# Altium schematic symbol library Regulator_Linear.SchLib: 1620 symbols (part 6 of 16)
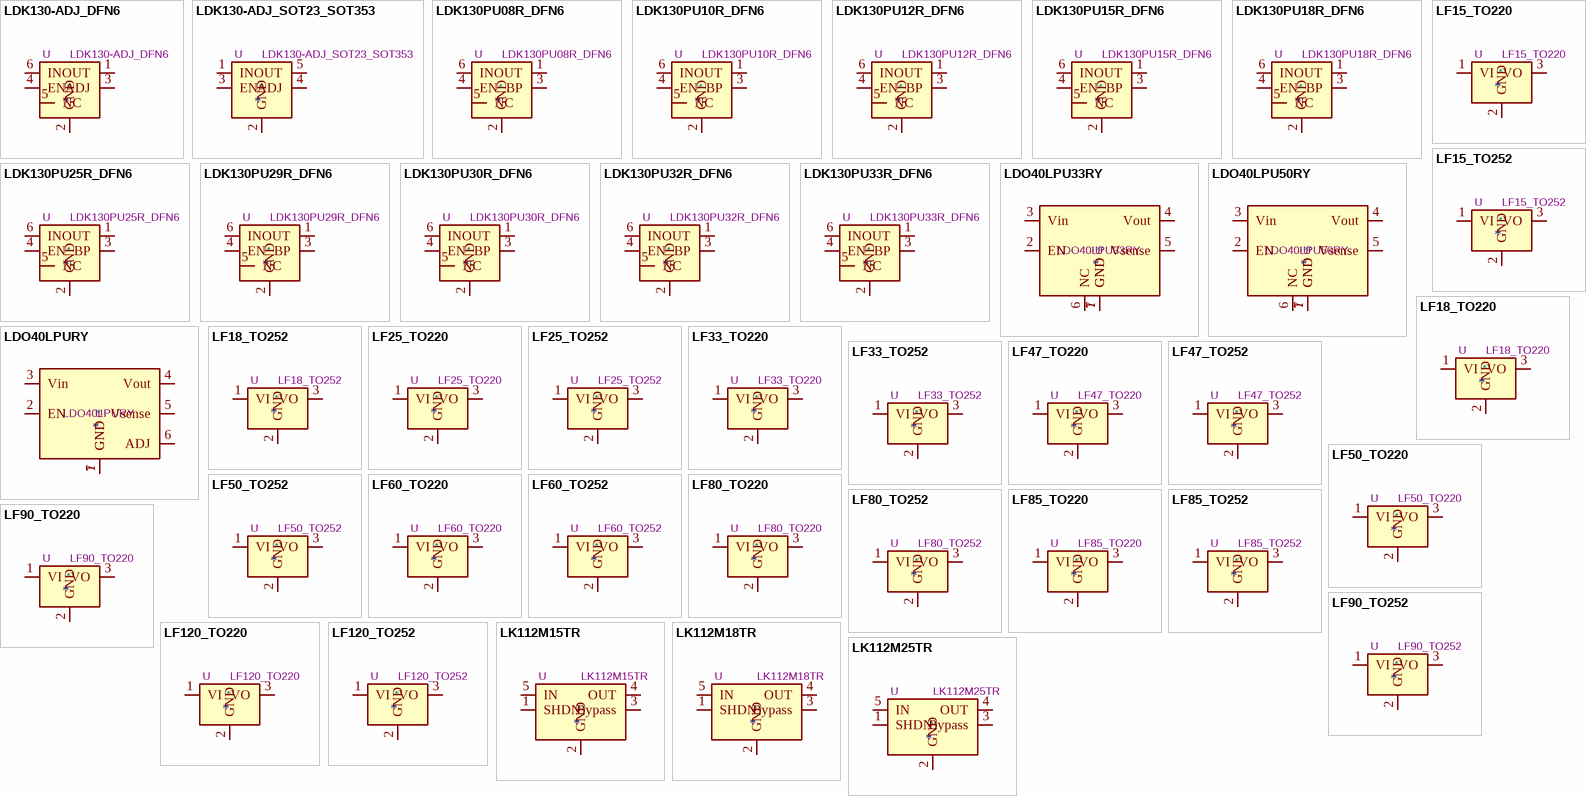
[diagram p45: symbols LDK130-ADJ_DFN6 to LK112M25TR]

## LF80_TO252
designator *  value LF80_TO252  Reference: U
Low-drop Voltage Regulator, Io up to 500mA, Fixed Vo 8.0V, TO-252 (DPAK); ki_keywords: LDO regulator voltage; ki_fp_filters: TO?252*; Footprint: Package_TO_SOT_SMD:TO-252-2; Datasheet: http://www.st.com/content/ccc/resource/technical/document/datasheet/c4/0e/7e/2a/be/bc/4c/bd/CD00000546.pdf/files/CD00000546.pdf/jcr:content/translations/en.CD00000546.pdf; Description_: Low-drop Voltage Regulator, Io up to 500mA, Fixed Vo 8.0V, TO-252 (DPAK)
pins: 1 VI, 2 GND, 3 VO

## LF85_TO220
designator *  value LF85_TO220  Reference: U
Low-drop Voltage Regulator, Io up to 500mA, Fixed Vo 8.5V, TO-220; ki_keywords: LDO regulator voltage; ki_fp_filters: TO?220*; Footprint: Package_TO_SOT_THT:TO-220-3_Vertical; Datasheet: http://www.st.com/content/ccc/resource/technical/document/datasheet/c4/0e/7e/2a/be/bc/4c/bd/CD00000546.pdf/files/CD00000546.pdf/jcr:content/translations/en.CD00000546.pdf; Description_: Low-drop Voltage Regulator, Io up to 500mA, Fixed Vo 8.5V, TO-220
pins: 1 VI, 2 GND, 3 VO

## LF85_TO252
designator *  value LF85_TO252  Reference: U
Low-drop Voltage Regulator, Io up to 500mA, Fixed Vo 8.5V, TO-252 (DPAK); ki_keywords: LDO regulator voltage; ki_fp_filters: TO?252*; Footprint: Package_TO_SOT_SMD:TO-252-2; Datasheet: http://www.st.com/content/ccc/resource/technical/document/datasheet/c4/0e/7e/2a/be/bc/4c/bd/CD00000546.pdf/files/CD00000546.pdf/jcr:content/translations/en.CD00000546.pdf; Description_: Low-drop Voltage Regulator, Io up to 500mA, Fixed Vo 8.5V, TO-252 (DPAK)
pins: 1 VI, 2 GND, 3 VO

## LF90_TO220
designator *  value LF90_TO220  Reference: U
Low-drop Voltage Regulator, Io up to 500mA, Fixed Vo 9.0V, TO-220; ki_keywords: LDO regulator voltage; ki_fp_filters: TO?220*; Footprint: Package_TO_SOT_THT:TO-220-3_Vertical; Datasheet: http://www.st.com/content/ccc/resource/technical/document/datasheet/c4/0e/7e/2a/be/bc/4c/bd/CD00000546.pdf/files/CD00000546.pdf/jcr:content/translations/en.CD00000546.pdf; Description_: Low-drop Voltage Regulator, Io up to 500mA, Fixed Vo 9.0V, TO-220
pins: 1 VI, 2 GND, 3 VO

## LF90_TO252
designator *  value LF90_TO252  Reference: U
Low-drop Voltage Regulator, Io up to 500mA, Fixed Vo 9.0V, TO-252 (DPAK); ki_keywords: LDO regulator voltage; ki_fp_filters: TO?252*; Footprint: Package_TO_SOT_SMD:TO-252-2; Datasheet: http://www.st.com/content/ccc/resource/technical/document/datasheet/c4/0e/7e/2a/be/bc/4c/bd/CD00000546.pdf/files/CD00000546.pdf/jcr:content/translations/en.CD00000546.pdf; Description_: Low-drop Voltage Regulator, Io up to 500mA, Fixed Vo 9.0V, TO-252 (DPAK)
pins: 1 VI, 2 GND, 3 VO

## LF120_TO220
designator *  value LF120_TO220  Reference: U
Low-drop Voltage Regulator, Io up to 500mA, Fixed Vo 12.0V, TO-220; ki_keywords: LDO regulator voltage; ki_fp_filters: TO?220*; Footprint: Package_TO_SOT_THT:TO-220-3_Vertical; Datasheet: http://www.st.com/content/ccc/resource/technical/document/datasheet/c4/0e/7e/2a/be/bc/4c/bd/CD00000546.pdf/files/CD00000546.pdf/jcr:content/translations/en.CD00000546.pdf; Description_: Low-drop Voltage Regulator, Io up to 500mA, Fixed Vo 12.0V, TO-220
pins: 1 VI, 2 GND, 3 VO

## LF120_TO252
designator *  value LF120_TO252  Reference: U
Low-drop Voltage Regulator, Io up to 500mA, Fixed Vo 12.0V, TO-252 (DPAK); ki_keywords: LDO regulator voltage; ki_fp_filters: TO?252*; Footprint: Package_TO_SOT_SMD:TO-252-2; Datasheet: http://www.st.com/content/ccc/resource/technical/document/datasheet/c4/0e/7e/2a/be/bc/4c/bd/CD00000546.pdf/files/CD00000546.pdf/jcr:content/translations/en.CD00000546.pdf; Description_: Low-drop Voltage Regulator, Io up to 500mA, Fixed Vo 12.0V, TO-252 (DPAK)
pins: 1 VI, 2 GND, 3 VO

## LK112M15TR
designator *  value LK112M15TR  Reference: U
Low noise and low drop voltage regulator with shutdown function, 150mA, Vout = 1.5V, SOT-23-5; ki_keywords: LDO regulator voltage; ki_fp_filters: SOT?23*; Footprint: Package_TO_SOT_SMD:SOT-23-5; Datasheet: https://www.st.com/resource/ja/datasheet/lk112.pdf; Description_: Low noise and low drop voltage regulator with shutdown function, 150mA, Vout = 1.5V, SOT-23-5
pins: 1 SHDN, 2 GND, 3 Bypass, 4 OUT, 5 IN

## LK112M18TR
designator *  value LK112M18TR  Reference: U
Low noise and low drop voltage regulator with shutdown function, 150mA, Vout = 1.8V, SOT-23-5; ki_keywords: LDO regulator voltage; ki_fp_filters: SOT?23*; Footprint: Package_TO_SOT_SMD:SOT-23-5; Datasheet: https://www.st.com/resource/ja/datasheet/lk112.pdf; Description_: Low noise and low drop voltage regulator with shutdown function, 150mA, Vout = 1.8V, SOT-23-5
pins: 1 SHDN, 2 GND, 3 Bypass, 4 OUT, 5 IN

## LK112M25TR
designator *  value LK112M25TR  Reference: U
Low noise and low drop voltage regulator with shutdown function, 150mA, Vout = 2.5V, SOT-23-5; ki_keywords: LDO regulator voltage; ki_fp_filters: SOT?23*; Footprint: Package_TO_SOT_SMD:SOT-23-5; Datasheet: https://www.st.com/resource/ja/datasheet/lk112.pdf; Description_: Low noise and low drop voltage regulator with shutdown function, 150mA, Vout = 2.5V, SOT-23-5
pins: 1 SHDN, 2 GND, 3 Bypass, 4 OUT, 5 IN

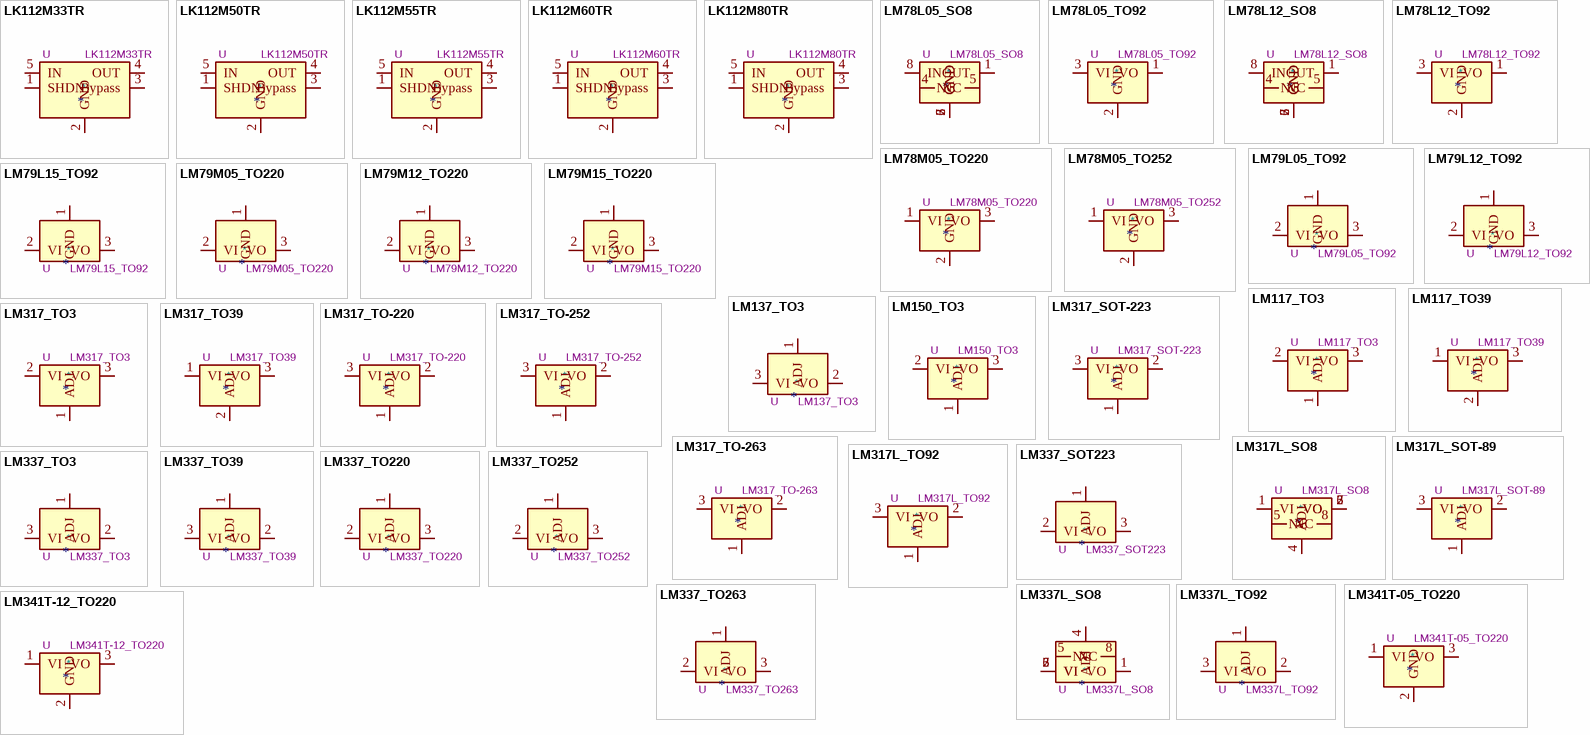
[diagram p13: symbols LK112M33TR to LM341T-12_TO220]

## LK112M33TR
designator *  value LK112M33TR  Reference: U
Low noise and low drop voltage regulator with shutdown function, 150mA, Vout = 3.3V, SOT-23-5; ki_keywords: LDO regulator voltage; ki_fp_filters: SOT?23*; Footprint: Package_TO_SOT_SMD:SOT-23-5; Datasheet: https://www.st.com/resource/ja/datasheet/lk112.pdf; Description_: Low noise and low drop voltage regulator with shutdown function, 150mA, Vout = 3.3V, SOT-23-5
pins: 1 SHDN, 2 GND, 3 Bypass, 4 OUT, 5 IN

## LK112M50TR
designator *  value LK112M50TR  Reference: U
Low noise and low drop voltage regulator with shutdown function, 150mA, Vout = 5.0V, SOT-23-5; ki_keywords: LDO regulator voltage; ki_fp_filters: SOT?23*; Footprint: Package_TO_SOT_SMD:SOT-23-5; Datasheet: https://www.st.com/resource/ja/datasheet/lk112.pdf; Description_: Low noise and low drop voltage regulator with shutdown function, 150mA, Vout = 5.0V, SOT-23-5
pins: 1 SHDN, 2 GND, 3 Bypass, 4 OUT, 5 IN

## LK112M55TR
designator *  value LK112M55TR  Reference: U
Low noise and low drop voltage regulator with shutdown function, 150mA, Vout = 5.5V, SOT-23-5; ki_keywords: LDO regulator voltage; ki_fp_filters: SOT?23*; Footprint: Package_TO_SOT_SMD:SOT-23-5; Datasheet: https://www.st.com/resource/ja/datasheet/lk112.pdf; Description_: Low noise and low drop voltage regulator with shutdown function, 150mA, Vout = 5.5V, SOT-23-5
pins: 1 SHDN, 2 GND, 3 Bypass, 4 OUT, 5 IN

## LK112M60TR
designator *  value LK112M60TR  Reference: U
Low noise and low drop voltage regulator with shutdown function, 150mA, Vout = 6.0V, SOT-23-5; ki_keywords: LDO regulator voltage; ki_fp_filters: SOT?23*; Footprint: Package_TO_SOT_SMD:SOT-23-5; Datasheet: https://www.st.com/resource/ja/datasheet/lk112.pdf; Description_: Low noise and low drop voltage regulator with shutdown function, 150mA, Vout = 6.0V, SOT-23-5
pins: 1 SHDN, 2 GND, 3 Bypass, 4 OUT, 5 IN

## LK112M80TR
designator *  value LK112M80TR  Reference: U
Low noise and low drop voltage regulator with shutdown function, 150mA, Vout = 8.0V, SOT-23-5; ki_keywords: LDO regulator voltage; ki_fp_filters: SOT?23*; Footprint: Package_TO_SOT_SMD:SOT-23-5; Datasheet: https://www.st.com/resource/ja/datasheet/lk112.pdf; Description_: Low noise and low drop voltage regulator with shutdown function, 150mA, Vout = 8.0V, SOT-23-5
pins: 1 SHDN, 2 GND, 3 Bypass, 4 OUT, 5 IN

## LM78L05_SO8
designator *  value LM78L05_SO8  Reference: U
Positive 100mA 30V Linear Regulator, Fixed Output 5V, SO-8; ki_keywords: Voltage Regulator 100mA Positive; ki_fp_filters: SOIC*3.9x4.9mm*P1.27mm*; Footprint: Package_SO:SOIC-8_3.9x4.9mm_P1.27mm; Datasheet: https://www.onsemi.com/pub/Collateral/MC78L06A-D.pdf; Description_: Positive 100mA 30V Linear Regulator, Fixed Output 5V, SO-8
pins: 1 OUT, 2 GND, 3 GND, 4 NC, 5 NC, 6 GND, 7 GND, 8 IN

## LM78L05_TO92
designator *  value LM78L05_TO92  Reference: U
Positive 100mA 30V Linear Regulator, Fixed Output 5V, TO-92; ki_keywords: Voltage Regulator 100mA Positive; ki_fp_filters: TO?92*; Footprint: Package_TO_SOT_THT:TO-92_Inline; Datasheet: https://www.onsemi.com/pub/Collateral/MC78L06A-D.pdf; Description_: Positive 100mA 30V Linear Regulator, Fixed Output 5V, TO-92
pins: 1 VO, 2 GND, 3 VI

## LM78L12_SO8
designator *  value LM78L12_SO8  Reference: U
Positive 100mA 30V Linear Regulator, Fixed Output 12V, SO-8; ki_keywords: Voltage Regulator 100mA Positive; ki_fp_filters: SOIC*3.9x4.9mm*P1.27mm*; Footprint: Package_SO:SOIC-8_3.9x4.9mm_P1.27mm; Datasheet: https://www.onsemi.com/pub/Collateral/MC78L06A-D.pdf; Description_: Positive 100mA 30V Linear Regulator, Fixed Output 12V, SO-8
pins: 1 OUT, 2 GND, 3 GND, 4 NC, 5 NC, 6 GND, 7 GND, 8 IN

## LM78L12_TO92
designator *  value LM78L12_TO92  Reference: U
Positive 100mA 30V Linear Regulator, Fixed Output 12V, TO-92; ki_keywords: Voltage Regulator 100mA Positive; ki_fp_filters: TO?92*; Footprint: Package_TO_SOT_THT:TO-92_Inline; Datasheet: https://www.onsemi.com/pub/Collateral/MC78L06A-D.pdf; Description_: Positive 100mA 30V Linear Regulator, Fixed Output 12V, TO-92
pins: 1 VO, 2 GND, 3 VI

## LM78M05_TO220
designator *  value LM78M05_TO220  Reference: U
Positive 500mA 35V Linear Regulator, Fixed Output 5V, TO-220; ki_keywords: Voltage Regulator 500mA Positive; ki_fp_filters: TO?220*; Footprint: Package_TO_SOT_THT:TO-220-3_Vertical; Datasheet: https://www.onsemi.com/pub/Collateral/MC78M00-D.PDF; Description_: Positive 500mA 35V Linear Regulator, Fixed Output 5V, TO-220
pins: 1 VI, 2 GND, 3 VO

## LM78M05_TO252
designator *  value LM78M05_TO252  Reference: U
Positive 500mA 35V Linear Regulator, Fixed Output 5V, TO-252 (D-PAK); ki_keywords: Voltage Regulator 500mA Positive; ki_fp_filters: TO?252*; Footprint: Package_TO_SOT_SMD:TO-252-2; Datasheet: https://www.onsemi.com/pub/Collateral/MC78M00-D.PDF; Description_: Positive 500mA 35V Linear Regulator, Fixed Output 5V, TO-252 (D-PAK)
pins: 1 VI, 2 GND, 3 VO

## LM79L05_TO92
designator *  value LM79L05_TO92  Reference: U
3-Terminal Negative Regulator, -5V, TO-92; ki_keywords: negative regulatpr; ki_fp_filters: TO?92*; Footprint: Package_TO_SOT_THT:TO-92_Inline; Datasheet: http://www.ti.com/lit/ds/symlink/lm79l.pdf; Description_: 3-Terminal Negative Regulator, -5V, TO-92
pins: 1 GND, 2 VI, 3 VO

## LM79L12_TO92
designator *  value LM79L12_TO92  Reference: U
3-Terminal Negative Regulator, -12V, TO-92; ki_keywords: negative regulatpr; ki_fp_filters: TO?92*; Footprint: Package_TO_SOT_THT:TO-92_Inline; Datasheet: http://www.ti.com/lit/ds/symlink/lm79l.pdf; Description_: 3-Terminal Negative Regulator, -12V, TO-92
pins: 1 GND, 2 VI, 3 VO

## LM79L15_TO92
designator *  value LM79L15_TO92  Reference: U
3-Terminal Negative Regulator, -15V, TO-92; ki_keywords: negative regulatpr; ki_fp_filters: TO?92*; Footprint: Package_TO_SOT_THT:TO-92_Inline; Datasheet: http://www.ti.com/lit/ds/symlink/lm79l.pdf; Description_: 3-Terminal Negative Regulator, -15V, TO-92
pins: 1 GND, 2 VI, 3 VO

## LM79M05_TO220
designator *  value LM79M05_TO220  Reference: U
Negative 500mA 35V Linear Regulator, Fixed Output 5V, TO-220; ki_keywords: Voltage Regulator 500mA Negative; ki_fp_filters: TO?220*; Footprint: Package_TO_SOT_THT:TO-220-3_Vertical; Datasheet: https://www.onsemi.com/pub/Collateral/MC79M00-D.PDF; Description_: Negative 500mA 35V Linear Regulator, Fixed Output 5V, TO-220
pins: 1 GND, 2 VI, 3 VO

## LM79M12_TO220
designator *  value LM79M12_TO220  Reference: U
Negative 500mA 35V Linear Regulator, Fixed Output 12V, TO-220; ki_keywords: Voltage Regulator 500mA Negative; ki_fp_filters: TO?220*; Footprint: Package_TO_SOT_THT:TO-220-3_Vertical; Datasheet: https://www.onsemi.com/pub/Collateral/MC79M00-D.PDF; Description_: Negative 500mA 35V Linear Regulator, Fixed Output 12V, TO-220
pins: 1 GND, 2 VI, 3 VO

## LM79M15_TO220
designator *  value LM79M15_TO220  Reference: U
Negative 500mA 35V Linear Regulator, Fixed Output 15V, TO-220; ki_keywords: Voltage Regulator 500mA Negative; ki_fp_filters: TO?220*; Footprint: Package_TO_SOT_THT:TO-220-3_Vertical; Datasheet: https://www.onsemi.com/pub/Collateral/MC79M00-D.PDF; Description_: Negative 500mA 35V Linear Regulator, Fixed Output 15V, TO-220
pins: 1 GND, 2 VI, 3 VO

## LM117_TO3
designator *  value LM117_TO3  Reference: U
1,5A 35V Adjustable Linear Regulator, TO-3; ki_keywords: Adjustable Voltage Regulator 1,5A Positive; ki_fp_filters: TO?3*; Footprint: Package_TO_SOT_THT:TO-3; Datasheet: http://www.ti.com/lit/ds/symlink/lm317.pdf; Description_: 1,5A 35V Adjustable Linear Regulator, TO-3
pins: 1 ADJ, 2 VI, 3 VO

## LM117_TO39
designator *  value LM117_TO39  Reference: U
500mA 35V Adjustable Linear Regulator, TO-39; ki_keywords: Adjustable Voltage Regulator 500mA Positive; ki_fp_filters: TO?39*; Footprint: Package_TO_SOT_THT:TO-39-3; Datasheet: http://www.ti.com/lit/ds/symlink/lm317.pdf; Description_: 500mA 35V Adjustable Linear Regulator, TO-39
pins: 1 VI, 2 ADJ, 3 VO

## LM137_TO3
designator *  value LM137_TO3  Reference: U
Negative 1.5A 35V Adjustable Linear Regulator, TO-3; ki_keywords: Adjustable Voltage Regulator 1.5A Negative; ki_fp_filters: TO?3*; Footprint: Package_TO_SOT_THT:TO-3; Datasheet: http://www.ti.com/lit/ds/symlink/lm337-n.pdf; Description_: Negative 1.5A 35V Adjustable Linear Regulator, TO-3
pins: 1 ADJ, 2 VO, 3 VI

## LM150_TO3
designator *  value LM150_TO3  Reference: U
3A 33V Adjustable Linear Regulator, TO-3; ki_keywords: Adjustable Voltage Regulator 3A Positive; ki_fp_filters: TO?3*; Footprint: Package_TO_SOT_THT:TO-3; Datasheet: http://www.ti.com/lit/ds/symlink/lm350a.pdf; Description_: 3A 33V Adjustable Linear Regulator, TO-3
pins: 1 ADJ, 2 VI, 3 VO

## LM317_SOT-223
designator *  value LM317_SOT-223  Reference: U
1.5A 35V Adjustable Linear Regulator, SOT-223; ki_keywords: Adjustable Voltage Regulator 1A Positive; ki_fp_filters: SOT?223*TabPin2*; Footprint: Package_TO_SOT_SMD:SOT-223-3_TabPin2; Datasheet: http://www.ti.com/lit/ds/symlink/lm317.pdf; Description_: 1.5A 35V Adjustable Linear Regulator, SOT-223
pins: 1 ADJ, 2 VO, 3 VI

## LM317_TO3
designator *  value LM317_TO3  Reference: U
1.5A 35V Adjustable Linear Regulator, TO-3; ki_keywords: Adjustable Voltage Regulator 1.5A Positive; ki_fp_filters: TO?3*; Footprint: Package_TO_SOT_THT:TO-3; Datasheet: http://www.ti.com/lit/ds/symlink/lm317.pdf; Description_: 1.5A 35V Adjustable Linear Regulator, TO-3
pins: 1 ADJ, 2 VI, 3 VO

## LM317_TO39
designator *  value LM317_TO39  Reference: U
500mA 35V Adjustable Linear Regulator, TO-39; ki_keywords: Adjustable Voltage Regulator 500mA Positive; ki_fp_filters: TO?39*; Footprint: Package_TO_SOT_THT:TO-39-3; Datasheet: http://www.ti.com/lit/ds/symlink/lm317.pdf; Description_: 500mA 35V Adjustable Linear Regulator, TO-39
pins: 1 VI, 2 ADJ, 3 VO

## LM317_TO-220
designator *  value LM317_TO-220  Reference: U
1.5A 35V Adjustable Linear Regulator, TO-220; ki_keywords: Adjustable Voltage Regulator 1A Positive; ki_fp_filters: TO?220*; Footprint: Package_TO_SOT_THT:TO-220-3_Vertical; Datasheet: http://www.ti.com/lit/ds/symlink/lm317.pdf; Description_: 1.5A 35V Adjustable Linear Regulator, TO-220
pins: 1 ADJ, 2 VO, 3 VI

## LM317_TO-252
designator *  value LM317_TO-252  Reference: U
1.5A 35V Adjustable Linear Regulator, TO-252; ki_keywords: Adjustable Voltage Regulator 1A Positive; ki_fp_filters: TO?252*; Footprint: Package_TO_SOT_SMD:TO-252-2; Datasheet: http://www.ti.com/lit/ds/snvs774n/snvs774n.pdf; Description_: 1.5A 35V Adjustable Linear Regulator, TO-252
pins: 1 ADJ, 2 VO, 3 VI

## LM317_TO-263
designator *  value LM317_TO-263  Reference: U
1.5A 35V Adjustable Linear Regulator, TO-263; ki_keywords: Adjustable Voltage Regulator 1A Positive; ki_fp_filters: TO?263*; Footprint: Package_TO_SOT_SMD:TO-263-2; Datasheet: http://www.ti.com/lit/ds/symlink/lm317.pdf; Description_: 1.5A 35V Adjustable Linear Regulator, TO-263
pins: 1 ADJ, 2 VO, 3 VI

## LM317L_SO8
designator *  value LM317L_SO8  Reference: U
100mA 35V Adjustable Linear Regulator, SO-8; ki_keywords: Adjustable Voltage Regulator 100mA Positive; ki_fp_filters: SOIC*3.9x4.9mm*P1.27mm*; Footprint: Package_SO:SOIC-8_3.9x4.9mm_P1.27mm; Datasheet: http://www.ti.com/lit/ds/snvs775k/snvs775k.pdf; Description_: 100mA 35V Adjustable Linear Regulator, SO-8
pins: 1 VI, 2 VO, 3 VO, 4 ADJ, 5 NC, 6 VO, 7 VO, 8 NC

## LM317L_SOT-89
designator *  value LM317L_SOT-89  Reference: U
100mA 35V Adjustable Linear Regulator, SOT-89; ki_keywords: Adjustable Voltage Regulator 1A Positive; ki_fp_filters: SOT?89*; Footprint: Package_TO_SOT_SMD:SOT-89-3; Datasheet: http://www.ti.com/lit/ds/symlink/lm317l.pdf; Description_: 100mA 35V Adjustable Linear Regulator, SOT-89
pins: 1 ADJ, 2 VO, 3 VI

## LM317L_TO92
designator *  value LM317L_TO92  Reference: U
100mA 35V Adjustable Linear Regulator, TO-92; ki_keywords: Adjustable Voltage Regulator 100mA Positive; ki_fp_filters: TO?92*; Footprint: Package_TO_SOT_THT:TO-92_Inline; Datasheet: http://www.ti.com/lit/ds/snvs775k/snvs775k.pdf; Description_: 100mA 35V Adjustable Linear Regulator, TO-92
pins: 1 ADJ, 2 VO, 3 VI

## LM337_SOT223
designator *  value LM337_SOT223  Reference: U
Negative 1A 35V Adjustable Linear Regulator, SOT-223; ki_keywords: Adjustable Voltage Regulator 1A Negative; ki_fp_filters: SOT?223*; Footprint: Package_TO_SOT_SMD:SOT-223-3_TabPin2; Datasheet: http://www.ti.com/lit/ds/symlink/lm337-n.pdf; Description_: Negative 1A 35V Adjustable Linear Regulator, SOT-223
pins: 1 ADJ, 2 VI, 3 VO

## LM337_TO3
designator *  value LM337_TO3  Reference: U
Negative 1.5A 35V Adjustable Linear Regulator, TO-3; ki_keywords: Adjustable Voltage Regulator 1.5A Negative; ki_fp_filters: TO?3*; Footprint: Package_TO_SOT_THT:TO-3; Datasheet: http://www.ti.com/lit/ds/symlink/lm337-n.pdf; Description_: Negative 1.5A 35V Adjustable Linear Regulator, TO-3
pins: 1 ADJ, 2 VO, 3 VI

## LM337_TO39
designator *  value LM337_TO39  Reference: U
Negative 500mA 35V Adjustable Linear Regulator, TO-39; ki_keywords: Adjustable Voltage Regulator 500mA Negative; ki_fp_filters: TO?39*; Footprint: Package_TO_SOT_THT:TO-39-3; Datasheet: http://www.ti.com/lit/ds/symlink/lm337-n.pdf; Description_: Negative 500mA 35V Adjustable Linear Regulator, TO-39
pins: 1 ADJ, 2 VO, 3 VI

## LM337_TO220
designator *  value LM337_TO220  Reference: U
Negative 1.5A 35V Adjustable Linear Regulator, TO-220; ki_keywords: Adjustable Voltage Regulator 1.5A Negative; ki_fp_filters: TO?220*; Footprint: Package_TO_SOT_THT:TO-220-3_Vertical; Datasheet: http://www.ti.com/lit/ds/symlink/lm337-n.pdf; Description_: Negative 1.5A 35V Adjustable Linear Regulator, TO-220
pins: 1 ADJ, 2 VI, 3 VO

## LM337_TO252
designator *  value LM337_TO252  Reference: U
Negative 1A 35V Adjustable Linear Regulator, TO-252(DPAK); ki_keywords: Adjustable Voltage Regulator 1A Negative; ki_fp_filters: TO?252*; Footprint: Package_TO_SOT_SMD:TO-252-2; Datasheet: http://www.farnell.com/datasheets/1636957.pdf; Description_: Negative 1A 35V Adjustable Linear Regulator, TO-252(DPAK)
pins: 1 ADJ, 2 VI, 3 VO

## LM337_TO263
designator *  value LM337_TO263  Reference: U
Negative 1A 35V Adjustable Linear Regulator, TO-263(D2-PAK); ki_keywords: Adjustable Voltage Regulator 1A Negative; ki_fp_filters: TO?263*; Footprint: Package_TO_SOT_SMD:TO-263-2; Datasheet: https://www.onsemi.com/pub/Collateral/LM337-D.PDF; Description_: Negative 1A 35V Adjustable Linear Regulator, TO-263(D2-PAK)
pins: 1 ADJ, 2 VI, 3 VO

## LM337L_SO8
designator *  value LM337L_SO8  Reference: U
100mA 35V Adjustable Negative Linear Regulator, SO-8; ki_keywords: Adjustable Negative Voltage Regulator 100mA; ki_fp_filters: SOIC*3.9x4.9mm*P1.27mm*; Footprint: Package_SO:SOIC-8_3.9x4.9mm_P1.27mm; Datasheet: http://www.ti.com/lit/ds/symlink/lm337l.pdf; Description_: 100mA 35V Adjustable Negative Linear Regulator, SO-8
pins: 1 VO, 2 VI, 3 VI, 4 ADJ, 5 NC, 6 VI, 7 VI, 8 NC

## LM337L_TO92
designator *  value LM337L_TO92  Reference: U
Negative 100mA 35V Adjustable Linear Regulator, TO-92; ki_keywords: Adjustable Voltage Regulator 100mA Negative; ki_fp_filters: TO?92*; Footprint: Package_TO_SOT_THT:TO-92_Inline; Datasheet: http://www.ti.com/lit/ds/symlink/lm337l.pdf; Description_: Negative 100mA 35V Adjustable Linear Regulator, TO-92
pins: 1 ADJ, 2 VO, 3 VI

## LM341T-05_TO220
designator *  value LM341T-05_TO220  Reference: U
Positive 500mA 35V Linear Regulator, Fixed Output 5V, TO-220; ki_keywords: Voltage Regulator 500mA Positive; ki_fp_filters: TO?220*; Footprint: Package_TO_SOT_THT:TO-220-3_Vertical; Datasheet: https://www.ti.com/lit/ds/symlink/lm341.pdf; Description_: Positive 500mA 35V Linear Regulator, Fixed Output 5V, TO-220
pins: 1 VI, 2 GND, 3 VO

## LM341T-12_TO220
designator *  value LM341T-12_TO220  Reference: U
Positive 500mA 35V Linear Regulator, Fixed Output 12V, TO-220; ki_keywords: Voltage Regulator 500mA Positive; ki_fp_filters: TO?220*; Footprint: Package_TO_SOT_THT:TO-220-3_Vertical; Datasheet: https://www.ti.com/lit/ds/symlink/lm341.pdf; Description_: Positive 500mA 35V Linear Regulator, Fixed Output 12V, TO-220
pins: 1 VI, 2 GND, 3 VO

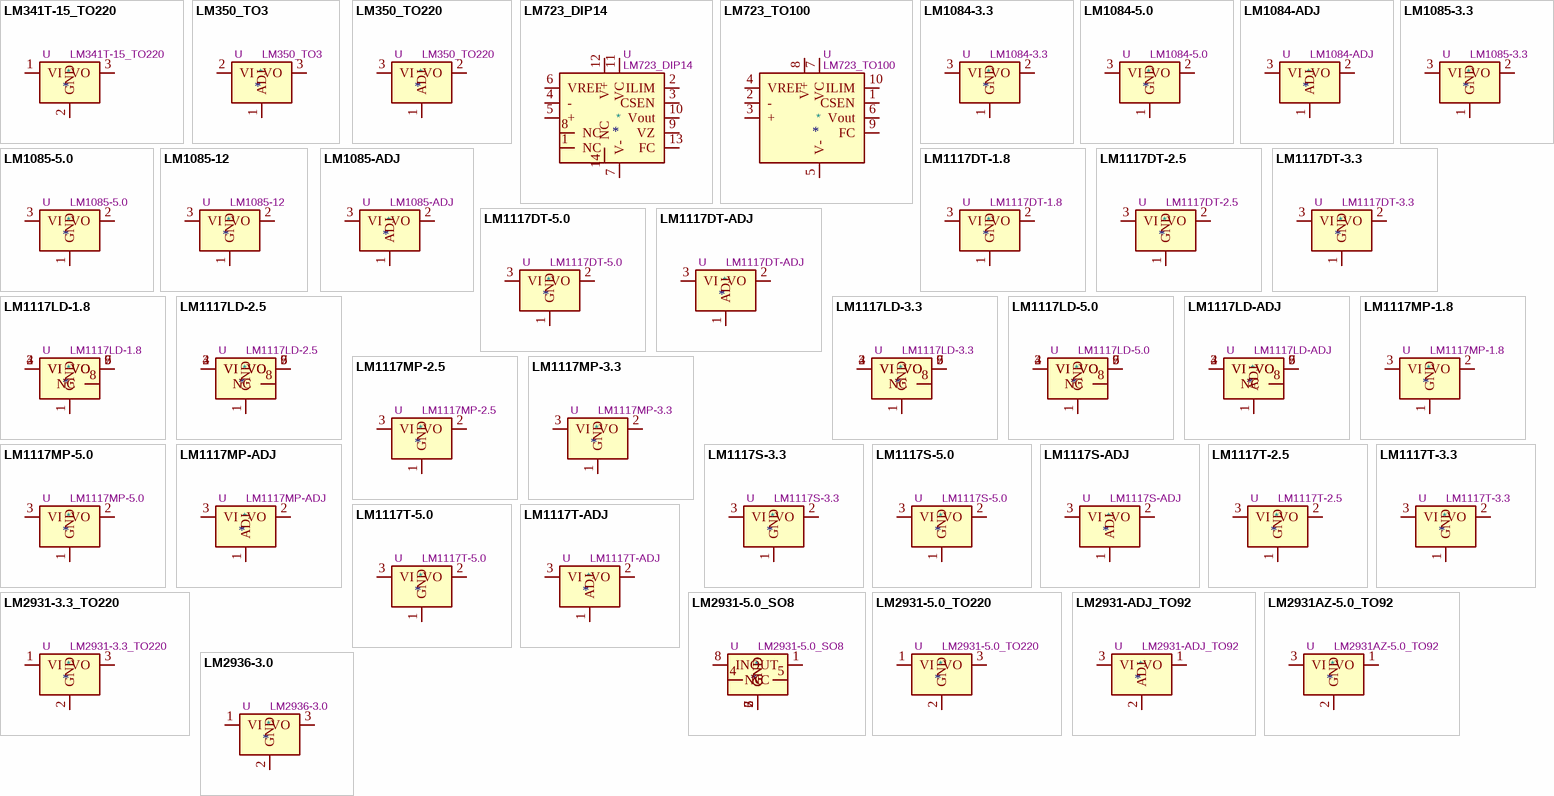
[diagram p14: symbols LM341T-15_TO220 to LM2936-3.0]

## LM341T-15_TO220
designator *  value LM341T-15_TO220  Reference: U
Positive 500mA 35V Linear Regulator, Fixed Output 15V, TO-220; ki_keywords: Voltage Regulator 500mA Positive; ki_fp_filters: TO?220*; Footprint: Package_TO_SOT_THT:TO-220-3_Vertical; Datasheet: https://www.ti.com/lit/ds/symlink/lm341.pdf; Description_: Positive 500mA 35V Linear Regulator, Fixed Output 15V, TO-220
pins: 1 VI, 2 GND, 3 VO

## LM350_TO3
designator *  value LM350_TO3  Reference: U
3A 33V Adjustable Linear Regulator, TO-3; ki_keywords: Adjustable Voltage Regulator 3A Positive; ki_fp_filters: TO?3*; Footprint: Package_TO_SOT_THT:TO-3; Datasheet: http://www.ti.com/lit/ds/symlink/lm350a.pdf; Description_: 3A 33V Adjustable Linear Regulator, TO-3
pins: 1 ADJ, 2 VI, 3 VO

## LM350_TO220
designator *  value LM350_TO220  Reference: U
3A 33V Adjustable Linear Regulator, TO-220; ki_keywords: Adjustable Voltage Regulator 3A Positive; ki_fp_filters: TO?220*; Footprint: Package_TO_SOT_THT:TO-220-3_Vertical; Datasheet: https://www.onsemi.com/pub/Collateral/LM350-D.pdf; Description_: 3A 33V Adjustable Linear Regulator, TO-220
pins: 1 ADJ, 2 VO, 3 VI

## LM723_DIP14
designator *  value LM723_DIP14  Reference: U
Linear Regulator (adjustable), DIP-14; ki_keywords: POWER REGUL; ki_fp_filters: DIP*W7.62mm*; Footprint: Package_DIP:DIP-14_W7.62mm; Datasheet: http://www.ti.com/lit/ds/symlink/lm723.pdf; Description_: Linear Regulator (adjustable), DIP-14
pins: 1 NC, 2 ILIM, 3 CSEN, 4 -, 5 +, 6 VREF, 7 V-, 8 NC, 9 VZ, 10 Vout, 11 VC, 12 V+, 13 FC, 14 NC

## LM723_TO100
designator *  value LM723_TO100  Reference: U
Linear Regulator (adjustable), TO-100; ki_keywords: POWER REGUL; ki_fp_filters: TO?100*; Footprint: Package_TO_SOT_THT:TO-100-10; Datasheet: http://www.ti.com/lit/ds/symlink/lm723.pdf; Description_: Linear Regulator (adjustable), TO-100
pins: 1 CSEN, 2 -, 3 +, 4 VREF, 5 V-, 6 Vout, 7 VC, 8 V+, 9 FC, 10 ILIM

## LM1084-3.3
designator *  value LM1084-3.3  Reference: U
5A 27V Linear Regulator, Fixed Output 3.3V, TO-220/TO-263; ki_keywords: Voltage Regulator Fixed 5A Positive; ki_fp_filters: TO?220* TO?263*; Datasheet: http://www.ti.com/lit/ds/symlink/lm1084.pdf; Description_: 5A 27V Linear Regulator, Fixed Output 3.3V, TO-220/TO-263
pins: 1 GND, 2 VO, 3 VI

## LM1084-5.0
designator *  value LM1084-5.0  Reference: U
5A 27V Linear Regulator, Fixed Output 5.0V, TO-220/TO-263; ki_keywords: Voltage Regulator 5A Positive; ki_fp_filters: TO?220* TO?263*; Datasheet: http://www.ti.com/lit/ds/symlink/lm1084.pdf; Description_: 5A 27V Linear Regulator, Fixed Output 5.0V, TO-220/TO-263
pins: 1 GND, 2 VO, 3 VI

## LM1084-ADJ
designator *  value LM1084-ADJ  Reference: U
5A 29V Adjustable Linear Regulator, TO-220 / TO-263 (D2-PAK); ki_keywords: Adjustable Voltage Regulator 5A Positive; ki_fp_filters: TO?220* TO?263*; Datasheet: http://www.ti.com/lit/ds/symlink/lm1084.pdf; Description_: 5A 29V Adjustable Linear Regulator, TO-220 / TO-263 (D2-PAK)
pins: 1 ADJ, 2 VO, 3 VI

## LM1085-3.3
designator *  value LM1085-3.3  Reference: U
3A 27V Linear Regulator, Fixed Output 3.3V, TO-220/TO-263; ki_keywords: Voltage Regulator Fixed 5A Positive; ki_fp_filters: TO?220* TO?263*; Datasheet: http://www.ti.com/lit/ds/symlink/lm1085.pdf; Description_: 3A 27V Linear Regulator, Fixed Output 3.3V, TO-220/TO-263
pins: 1 GND, 2 VO, 3 VI

## LM1085-5.0
designator *  value LM1085-5.0  Reference: U
3A 25V Linear Regulator, Fixed Output 5.0V, TO-220/TO-263; ki_keywords: Voltage Regulator 5A Positive; ki_fp_filters: TO?220* TO?263*; Datasheet: http://www.ti.com/lit/ds/symlink/lm1085.pdf; Description_: 3A 25V Linear Regulator, Fixed Output 5.0V, TO-220/TO-263
pins: 1 GND, 2 VO, 3 VI

## LM1085-12
designator *  value LM1085-12  Reference: U
3A 18V Linear Regulator, Fixed Output 12.0V, TO-220/TO-263; ki_keywords: Voltage Regulator 5A Positive; ki_fp_filters: TO?220* TO?263*; Datasheet: http://www.ti.com/lit/ds/symlink/lm1085.pdf; Description_: 3A 18V Linear Regulator, Fixed Output 12.0V, TO-220/TO-263
pins: 1 GND, 2 VO, 3 VI

## LM1085-ADJ
designator *  value LM1085-ADJ  Reference: U
3A 29V Adjustable Linear Regulator, TO-220 / TO-263 (D2-PAK); ki_keywords: Adjustable Voltage Regulator 5A Positive; ki_fp_filters: TO?220* TO?263*; Datasheet: http://www.ti.com/lit/ds/symlink/lm1085.pdf; Description_: 3A 29V Adjustable Linear Regulator, TO-220 / TO-263 (D2-PAK)
pins: 1 ADJ, 2 VO, 3 VI

## LM1117DT-1.8
designator *  value LM1117DT-1.8  Reference: U
800mA Low-Dropout Linear Regulator, 1.8V fixed output, TO-252; ki_keywords: linear regulator ldo fixed positive; ki_fp_filters: TO?252*; Footprint: Package_TO_SOT_SMD:TO-252-3_TabPin2; Datasheet: http://www.ti.com/lit/ds/symlink/lm1117.pdf; Description_: 800mA Low-Dropout Linear Regulator, 1.8V fixed output, TO-252
pins: 1 GND, 2 VO, 3 VI

## LM1117DT-2.5
designator *  value LM1117DT-2.5  Reference: U
800mA Low-Dropout Linear Regulator, 2.5V fixed output, TO-252; ki_keywords: linear regulator ldo fixed positive; ki_fp_filters: TO?252*; Footprint: Package_TO_SOT_SMD:TO-252-3_TabPin2; Datasheet: http://www.ti.com/lit/ds/symlink/lm1117.pdf; Description_: 800mA Low-Dropout Linear Regulator, 2.5V fixed output, TO-252
pins: 1 GND, 2 VO, 3 VI

## LM1117DT-3.3
designator *  value LM1117DT-3.3  Reference: U
800mA Low-Dropout Linear Regulator, 3.3V fixed output, TO-252; ki_keywords: linear regulator ldo fixed positive; ki_fp_filters: TO?252*; Footprint: Package_TO_SOT_SMD:TO-252-3_TabPin2; Datasheet: http://www.ti.com/lit/ds/symlink/lm1117.pdf; Description_: 800mA Low-Dropout Linear Regulator, 3.3V fixed output, TO-252
pins: 1 GND, 2 VO, 3 VI

## LM1117DT-5.0
designator *  value LM1117DT-5.0  Reference: U
800mA Low-Dropout Linear Regulator, 5.0V fixed output, TO-252; ki_keywords: linear regulator ldo fixed positive; ki_fp_filters: TO?252*; Footprint: Package_TO_SOT_SMD:TO-252-3_TabPin2; Datasheet: http://www.ti.com/lit/ds/symlink/lm1117.pdf; Description_: 800mA Low-Dropout Linear Regulator, 5.0V fixed output, TO-252
pins: 1 GND, 2 VO, 3 VI

## LM1117DT-ADJ
designator *  value LM1117DT-ADJ  Reference: U
800mA Low-Dropout Linear Regulator, adjustable output, TO-252; ki_keywords: linear regulator ldo adjustable positive; ki_fp_filters: TO?252*; Footprint: Package_TO_SOT_SMD:TO-252-3_TabPin2; Datasheet: http://www.ti.com/lit/ds/symlink/lm1117.pdf; Description_: 800mA Low-Dropout Linear Regulator, adjustable output, TO-252
pins: 1 ADJ, 2 VO, 3 VI

## LM1117LD-1.8
designator *  value LM1117LD-1.8  Reference: U
800mA Low-Dropout Linear Regulator, 1.8V fixed output, WSON-8; ki_keywords: linear regulator ldo fixed positive; ki_fp_filters: WSON?8*; Footprint: Package_SON:WSON-8-1EP_4x4mm_P0.8mm_EP2.2x3mm; Datasheet: http://www.ti.com/lit/ds/symlink/lm1117.pdf; Description_: 800mA Low-Dropout Linear Regulator, 1.8V fixed output, WSON-8
pins: 1 GND, 2 VI, 3 VI, 4 VI, 5 VO, 6 VO, 7 VO, 8 NC, 9 VO

## LM1117LD-2.5
designator *  value LM1117LD-2.5  Reference: U
800mA Low-Dropout Linear Regulator, 2.5V fixed output, WSON-8; ki_keywords: linear regulator ldo fixed positive; ki_fp_filters: WSON?8*; Footprint: Package_SON:WSON-8-1EP_4x4mm_P0.8mm_EP2.2x3mm; Datasheet: http://www.ti.com/lit/ds/symlink/lm1117.pdf; Description_: 800mA Low-Dropout Linear Regulator, 2.5V fixed output, WSON-8
pins: 1 GND, 2 VI, 3 VI, 4 VI, 5 VO, 6 VO, 7 VO, 8 NC, 9 VO

## LM1117LD-3.3
designator *  value LM1117LD-3.3  Reference: U
800mA Low-Dropout Linear Regulator, 3.3V fixed output, WSON-8; ki_keywords: linear regulator ldo fixed positive; ki_fp_filters: WSON?8*; Footprint: Package_SON:WSON-8-1EP_4x4mm_P0.8mm_EP2.2x3mm; Datasheet: http://www.ti.com/lit/ds/symlink/lm1117.pdf; Description_: 800mA Low-Dropout Linear Regulator, 3.3V fixed output, WSON-8
pins: 1 GND, 2 VI, 3 VI, 4 VI, 5 VO, 6 VO, 7 VO, 8 NC, 9 VO

## LM1117LD-5.0
designator *  value LM1117LD-5.0  Reference: U
800mA Low-Dropout Linear Regulator, 5.0V fixed output, WSON-8; ki_keywords: linear regulator ldo fixed positive; ki_fp_filters: WSON?8*; Footprint: Package_SON:WSON-8-1EP_4x4mm_P0.8mm_EP2.2x3mm; Datasheet: http://www.ti.com/lit/ds/symlink/lm1117.pdf; Description_: 800mA Low-Dropout Linear Regulator, 5.0V fixed output, WSON-8
pins: 1 GND, 2 VI, 3 VI, 4 VI, 5 VO, 6 VO, 7 VO, 8 NC, 9 VO

## LM1117LD-ADJ
designator *  value LM1117LD-ADJ  Reference: U
800mA Low-Dropout Linear Regulator, adjustable output, WSON-8; ki_keywords: linear regulator ldo adjustable positive; ki_fp_filters: WSON?8*; Footprint: Package_SON:WSON-8-1EP_4x4mm_P0.8mm_EP2.2x3mm; Datasheet: http://www.ti.com/lit/ds/symlink/lm1117.pdf; Description_: 800mA Low-Dropout Linear Regulator, adjustable output, WSON-8
pins: 1 ADJ, 2 VI, 3 VI, 4 VI, 5 VO, 6 VO, 7 VO, 8 NC, 9 VO

## LM1117MP-1.8
designator *  value LM1117MP-1.8  Reference: U
800mA Low-Dropout Linear Regulator, 1.8V fixed output, SOT-223; ki_keywords: linear regulator ldo fixed positive; ki_fp_filters: SOT?223*; Footprint: Package_TO_SOT_SMD:SOT-223-3_TabPin2; Datasheet: http://www.ti.com/lit/ds/symlink/lm1117.pdf; Description_: 800mA Low-Dropout Linear Regulator, 1.8V fixed output, SOT-223
pins: 1 GND, 2 VO, 3 VI

## LM1117MP-2.5
designator *  value LM1117MP-2.5  Reference: U
800mA Low-Dropout Linear Regulator, 2.5V fixed output, SOT-223; ki_keywords: linear regulator ldo fixed positive; ki_fp_filters: SOT?223*; Footprint: Package_TO_SOT_SMD:SOT-223-3_TabPin2; Datasheet: http://www.ti.com/lit/ds/symlink/lm1117.pdf; Description_: 800mA Low-Dropout Linear Regulator, 2.5V fixed output, SOT-223
pins: 1 GND, 2 VO, 3 VI

## LM1117MP-3.3
designator *  value LM1117MP-3.3  Reference: U
800mA Low-Dropout Linear Regulator, 3.3V fixed output, SOT-223; ki_keywords: linear regulator ldo fixed positive; ki_fp_filters: SOT?223*; Footprint: Package_TO_SOT_SMD:SOT-223-3_TabPin2; Datasheet: http://www.ti.com/lit/ds/symlink/lm1117.pdf; Description_: 800mA Low-Dropout Linear Regulator, 3.3V fixed output, SOT-223
pins: 1 GND, 2 VO, 3 VI

## LM1117MP-5.0
designator *  value LM1117MP-5.0  Reference: U
800mA Low-Dropout Linear Regulator, 5.0V fixed output, SOT-223; ki_keywords: linear regulator ldo fixed positive; ki_fp_filters: SOT?223*; Footprint: Package_TO_SOT_SMD:SOT-223-3_TabPin2; Datasheet: http://www.ti.com/lit/ds/symlink/lm1117.pdf; Description_: 800mA Low-Dropout Linear Regulator, 5.0V fixed output, SOT-223
pins: 1 GND, 2 VO, 3 VI

## LM1117MP-ADJ
designator *  value LM1117MP-ADJ  Reference: U
800mA Low-Dropout Linear Regulator, adjustable output, SOT-223; ki_keywords: linear regulator ldo adjustable positive; ki_fp_filters: SOT?223*; Footprint: Package_TO_SOT_SMD:SOT-223-3_TabPin2; Datasheet: http://www.ti.com/lit/ds/symlink/lm1117.pdf; Description_: 800mA Low-Dropout Linear Regulator, adjustable output, SOT-223
pins: 1 ADJ, 2 VO, 3 VI

## LM1117S-3.3
designator *  value LM1117S-3.3  Reference: U
800mA Low-Dropout Linear Regulator, 3.3V fixed output, TO-263; ki_keywords: linear regulator ldo fixed positive; ki_fp_filters: TO?263*; Footprint: Package_TO_SOT_SMD:TO-263-3_TabPin2; Datasheet: http://www.ti.com/lit/ds/symlink/lm1117.pdf; Description_: 800mA Low-Dropout Linear Regulator, 3.3V fixed output, TO-263
pins: 1 GND, 2 VO, 3 VI

## LM1117S-5.0
designator *  value LM1117S-5.0  Reference: U
800mA Low-Dropout Linear Regulator, 5.0V fixed output, TO-263; ki_keywords: linear regulator ldo fixed positive; ki_fp_filters: TO?263*; Footprint: Package_TO_SOT_SMD:TO-263-3_TabPin2; Datasheet: http://www.ti.com/lit/ds/symlink/lm1117.pdf; Description_: 800mA Low-Dropout Linear Regulator, 5.0V fixed output, TO-263
pins: 1 GND, 2 VO, 3 VI

## LM1117S-ADJ
designator *  value LM1117S-ADJ  Reference: U
800mA Low-Dropout Linear Regulator, adjustable output, TO-263; ki_keywords: linear regulator ldo adjustable positive; ki_fp_filters: TO?263*; Footprint: Package_TO_SOT_SMD:TO-263-3_TabPin2; Datasheet: http://www.ti.com/lit/ds/symlink/lm1117.pdf; Description_: 800mA Low-Dropout Linear Regulator, adjustable output, TO-263
pins: 1 ADJ, 2 VO, 3 VI

## LM1117T-2.5
designator *  value LM1117T-2.5  Reference: U
800mA Low-Dropout Linear Regulator, 2.5V fixed output, TO-220; ki_keywords: linear regulator ldo fixed positive; ki_fp_filters: TO?220*; Footprint: Package_TO_SOT_THT:TO-220-3_Horizontal_TabDown; Datasheet: http://www.ti.com/lit/ds/symlink/lm1117.pdf; Description_: 800mA Low-Dropout Linear Regulator, 2.5V fixed output, TO-220
pins: 1 GND, 2 VO, 3 VI

## LM1117T-3.3
designator *  value LM1117T-3.3  Reference: U
800mA Low-Dropout Linear Regulator, 3.3V fixed output, TO-220; ki_keywords: linear regulator ldo fixed positive; ki_fp_filters: TO?220*; Footprint: Package_TO_SOT_THT:TO-220-3_Horizontal_TabDown; Datasheet: http://www.ti.com/lit/ds/symlink/lm1117.pdf; Description_: 800mA Low-Dropout Linear Regulator, 3.3V fixed output, TO-220
pins: 1 GND, 2 VO, 3 VI

## LM1117T-5.0
designator *  value LM1117T-5.0  Reference: U
800mA Low-Dropout Linear Regulator, 5.0V fixed output, TO-220; ki_keywords: linear regulator ldo fixed positive; ki_fp_filters: TO?220*; Footprint: Package_TO_SOT_THT:TO-220-3_Horizontal_TabDown; Datasheet: http://www.ti.com/lit/ds/symlink/lm1117.pdf; Description_: 800mA Low-Dropout Linear Regulator, 5.0V fixed output, TO-220
pins: 1 GND, 2 VO, 3 VI

## LM1117T-ADJ
designator *  value LM1117T-ADJ  Reference: U
800mA Low-Dropout Linear Regulator, adjustable output, TO-220; ki_keywords: linear regulator ldo adjustable positive; ki_fp_filters: TO?220*; Footprint: Package_TO_SOT_THT:TO-220-3_Horizontal_TabDown; Datasheet: http://www.ti.com/lit/ds/symlink/lm1117.pdf; Description_: 800mA Low-Dropout Linear Regulator, adjustable output, TO-220
pins: 1 ADJ, 2 VO, 3 VI

## LM2931-3.3_TO220
designator *  value LM2931-3.3_TO220  Reference: U
Positive 100 mA 60V Linear Low Dropout Regulator, Fixed Output 3.3V, TO-220; ki_keywords: Low Dropout Voltage Regulator 100mA Positive; ki_fp_filters: TO?220*; Footprint: Package_TO_SOT_THT:TO-220-3_Vertical; Datasheet: https://www.ti.com/lit/ds/symlink/lm2931-n.pdf; Description_: Positive 100 mA 60V Linear Low Dropout Regulator, Fixed Output 3.3V, TO-220
pins: 1 VI, 2 GND, 3 VO

## LM2931-5.0_SO8
designator *  value LM2931-5.0_SO8  Reference: U
Positive 100mA 30V Linear Regulator, Fixed Output 5V, SO-8; ki_keywords: Voltage Regulator 100mA Positive; ki_fp_filters: SOIC*3.9x4.9mm*P1.27mm*; Footprint: Package_SO:SOIC-8_3.9x4.9mm_P1.27mm; Datasheet: http://www.ti.com/lit/ds/symlink/lm2931-n.pdf; Description_: Positive 100mA 30V Linear Regulator, Fixed Output 5V, SO-8
pins: 1 OUT, 2 GND, 3 GND, 4 NC, 5 NC, 6 GND, 7 GND, 8 IN

## LM2931-5.0_TO220
designator *  value LM2931-5.0_TO220  Reference: U
Positive 100 mA 60V Linear Low Dropout Regulator, Fixed Output 5V, TO-220; ki_keywords: Low Dropout Voltage Regulator 100mA Positive; ki_fp_filters: TO?220*; Footprint: Package_TO_SOT_THT:TO-220-3_Vertical; Datasheet: https://www.ti.com/lit/ds/symlink/lm2931-n.pdf; Description_: Positive 100 mA 60V Linear Low Dropout Regulator, Fixed Output 5V, TO-220
pins: 1 VI, 2 GND, 3 VO

## LM2931-ADJ_TO92
designator *  value LM2931-ADJ_TO92  Reference: U
100mA Low drop-out regulator, Adjustable Output, TO-92; ki_keywords: REGULATOR LDO Adjustable; ki_fp_filters: TO?92*; Footprint: Package_TO_SOT_THT:TO-92_Inline; Datasheet: http://www.ti.com/lit/ds/symlink/lm2931-n.pdf; Description_: 100mA Low drop-out regulator, Adjustable Output, TO-92
pins: 1 VO, 2 ADJ, 3 VI

## LM2931AZ-5.0_TO92
designator *  value LM2931AZ-5.0_TO92  Reference: U
100mA Low drop-out regulator, Fixed Output 5V, TO-92; ki_keywords: REGULATOR LDO 5V; ki_fp_filters: TO?92*; Footprint: Package_TO_SOT_THT:TO-92_Inline; Datasheet: http://www.ti.com/lit/ds/symlink/lm2931-n.pdf; Description_: 100mA Low drop-out regulator, Fixed Output 5V, TO-92
pins: 1 VO, 2 GND, 3 VI

## LM2936-3.0
designator *  value LM2936-3.0  Reference: U
50mA Ultra-Low Quiescent Current LDO Voltage Regulator, 3.0V fixed output, TO-252/SOT-223; ki_keywords: linear regulator ldo fixed positive; ki_fp_filters: TO?252* SOT?223*; Datasheet: http://www.ti.com/lit/ds/symlink/lm2936.pdf; Description_: 50mA Ultra-Low Quiescent Current LDO Voltage Regulator, 3.0V fixed output, TO-252/SOT-223
pins: 1 VI, 2 GND, 3 VO

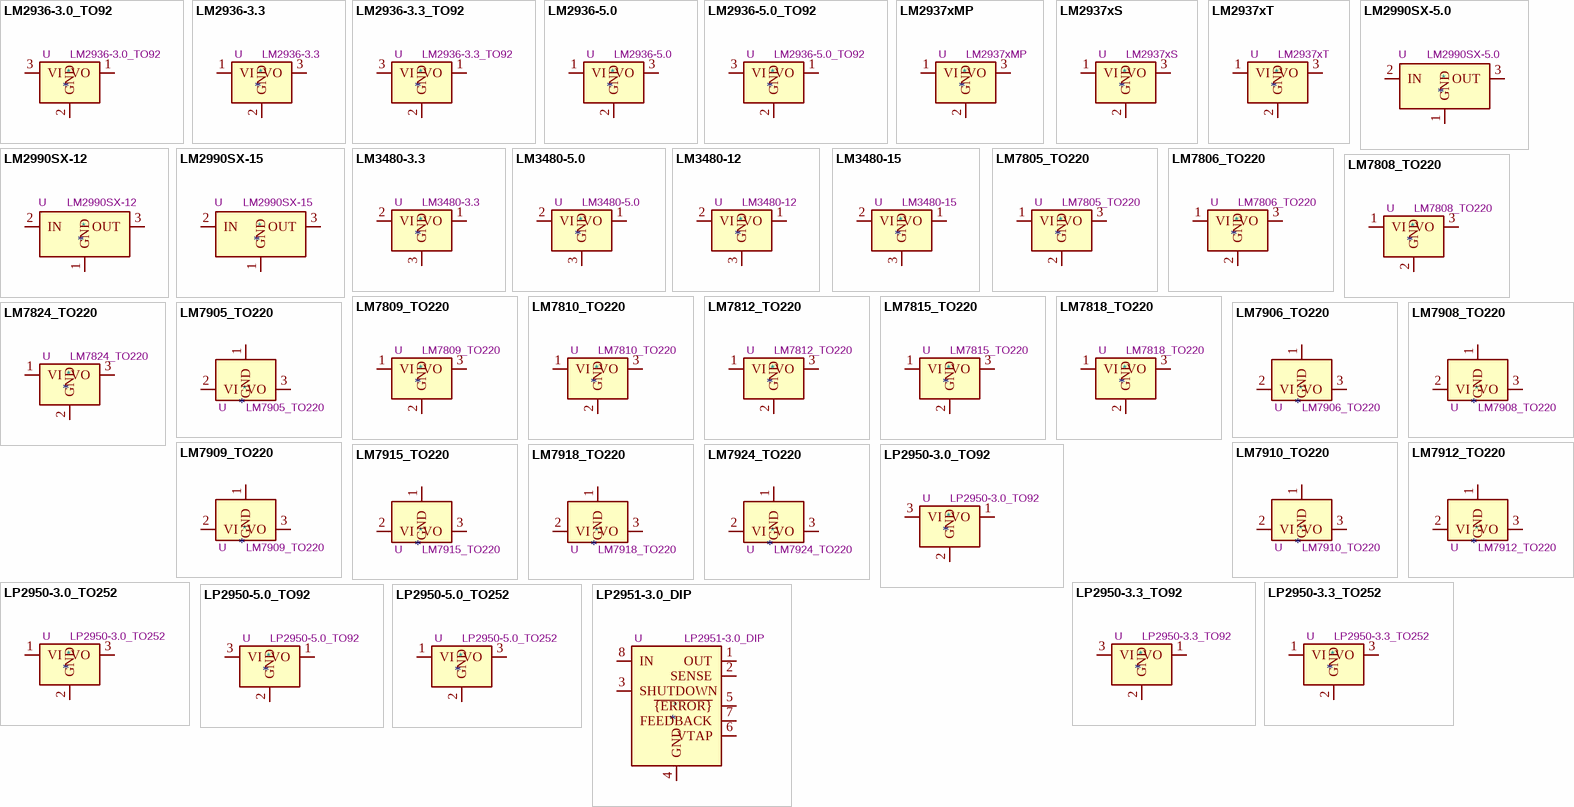
[diagram p15: symbols LM2936-3.0_TO92 to LP2951-3.0_DIP]

## LM2936-3.0_TO92
designator *  value LM2936-3.0_TO92  Reference: U
50mA Ultra-Low Quiescent Current LDO Voltage Regulator, 3.0V fixed output, TO-92; ki_keywords: linear regulator ldo fixed positive; ki_fp_filters: TO?92*; Footprint: Package_TO_SOT_THT:TO-92_Inline; Datasheet: http://www.ti.com/lit/ds/symlink/lm2936.pdf; Description_: 50mA Ultra-Low Quiescent Current LDO Voltage Regulator, 3.0V fixed output, TO-92
pins: 1 VO, 2 GND, 3 VI

## LM2936-3.3
designator *  value LM2936-3.3  Reference: U
50mA Ultra-Low Quiescent Current LDO Voltage Regulator, 3.3V fixed output, TO-252/SOT-223; ki_keywords: linear regulator ldo fixed positive; ki_fp_filters: TO?252* SOT?223*; Datasheet: http://www.ti.com/lit/ds/symlink/lm2936.pdf; Description_: 50mA Ultra-Low Quiescent Current LDO Voltage Regulator, 3.3V fixed output, TO-252/SOT-223
pins: 1 VI, 2 GND, 3 VO

## LM2936-3.3_TO92
designator *  value LM2936-3.3_TO92  Reference: U
50mA Ultra-Low Quiescent Current LDO Voltage Regulator, 3.3V fixed output, TO-92; ki_keywords: linear regulator ldo fixed positive; ki_fp_filters: TO?92*; Footprint: Package_TO_SOT_THT:TO-92_Inline; Datasheet: http://www.ti.com/lit/ds/symlink/lm2936.pdf; Description_: 50mA Ultra-Low Quiescent Current LDO Voltage Regulator, 3.3V fixed output, TO-92
pins: 1 VO, 2 GND, 3 VI

## LM2936-5.0
designator *  value LM2936-5.0  Reference: U
50mA Ultra-Low Quiescent Current LDO Voltage Regulator, 5.0V fixed output, TO-252/SOT-223; ki_keywords: linear regulator ldo fixed positive; ki_fp_filters: TO?252* SOT?223*; Datasheet: http://www.ti.com/lit/ds/symlink/lm2936.pdf; Description_: 50mA Ultra-Low Quiescent Current LDO Voltage Regulator, 5.0V fixed output, TO-252/SOT-223
pins: 1 VI, 2 GND, 3 VO

## LM2936-5.0_TO92
designator *  value LM2936-5.0_TO92  Reference: U
50mA Ultra-Low Quiescent Current LDO Voltage Regulator, 5.0V fixed output, TO-92; ki_keywords: linear regulator ldo fixed positive; ki_fp_filters: TO?92*; Footprint: Package_TO_SOT_THT:TO-92_Inline; Datasheet: http://www.ti.com/lit/ds/symlink/lm2936.pdf; Description_: 50mA Ultra-Low Quiescent Current LDO Voltage Regulator, 5.0V fixed output, TO-92
pins: 1 VO, 2 GND, 3 VI

## LM2937xMP
designator *  value LM2937xMP  Reference: U
500-mA Low Dropout Regulator, SOT-223; ki_keywords: Voltage Regulator Low Dropuout Positive LDO; ki_fp_filters: SOT?223*; Footprint: Package_TO_SOT_SMD:SOT-223-3_TabPin2; Datasheet: http://www.ti.com/lit/ds/symlink/lm2937.pdf; Description_: 500-mA Low Dropout Regulator, SOT-223
pins: 1 VI, 2 GND, 3 VO

## LM2937xS
designator *  value LM2937xS  Reference: U
500-mA Low Dropout Regulator, TO-263; ki_keywords: Voltage Regulator Low Dropuout Positive LDO; ki_fp_filters: TO?263*; Footprint: Package_TO_SOT_SMD:TO-263-3_TabPin2; Datasheet: http://www.ti.com/lit/ds/symlink/lm2937.pdf; Description_: 500-mA Low Dropout Regulator, TO-263
pins: 1 VI, 2 GND, 3 VO

## LM2937xT
designator *  value LM2937xT  Reference: U
500-mA Low Dropout Regulator, TO-220; ki_keywords: Voltage Regulator Low Dropuout Positive LDO; ki_fp_filters: TO?220*; Footprint: Package_TO_SOT_THT:TO-220-3_Vertical; Datasheet: http://www.ti.com/lit/ds/symlink/lm2937.pdf; Description_: 500-mA Low Dropout Regulator, TO-220
pins: 1 VI, 2 GND, 3 VO

## LM2990SX-5.0
designator *  value LM2990SX-5.0  Reference: U
Three termianl low-dropout 1A negative voltage regulator, Input -6V to -26V, Out -5V; ki_fp_filters: TO?263*TabPin2* TO?220*; Datasheet: http://www.ti.com/lit/ds/symlink/lm2990.pdf; Description_: Three termianl low-dropout 1A negative voltage regulator, Input -6V to -26V, Out -5V; ki_keywords: Negative voltage regulator
pins: 1 GND, 2 IN, 3 OUT

## LM2990SX-12
designator *  value LM2990SX-12  Reference: U
Three termianl low-dropout 1A negative voltage regulator, Input -6V to -26V, Out -12V; ki_fp_filters: TO?263*TabPin2* TO?220*; Datasheet: http://www.ti.com/lit/ds/symlink/lm2990.pdf; Description_: Three termianl low-dropout 1A negative voltage regulator, Input -6V to -26V, Out -12V; ki_keywords: Negative voltage regulator
pins: 1 GND, 2 IN, 3 OUT

## LM2990SX-15
designator *  value LM2990SX-15  Reference: U
Three termianl low-dropout 1A negative voltage regulator, Input -6V to -26V, Out -15V; ki_fp_filters: TO?263*TabPin2* TO?220*; Datasheet: http://www.ti.com/lit/ds/symlink/lm2990.pdf; Description_: Three termianl low-dropout 1A negative voltage regulator, Input -6V to -26V, Out -15V; ki_keywords: Negative voltage regulator
pins: 1 GND, 2 IN, 3 OUT

## LM3480-3.3
designator *  value LM3480-3.3  Reference: U
100mA, Quasi Low Dropout Voltage Regulator, 3.3V positive fixed output, SOT-23 package; ki_keywords: ldo linear fixed positive; ki_fp_filters: SOT?23*; Footprint: Package_TO_SOT_SMD:SOT-23; Datasheet: http://www.ti.com/lit/ds/symlink/lm3480.pdf; Description_: 100mA, Quasi Low Dropout Voltage Regulator, 3.3V positive fixed output, SOT-23 package
pins: 1 VO, 2 VI, 3 GND

## LM3480-5.0
designator *  value LM3480-5.0  Reference: U
100mA, Quasi Low Dropout Voltage Regulator, 5.0V positive fixed output, SOT-23 package; ki_keywords: ldo linear fixed positive; ki_fp_filters: SOT?23*; Footprint: Package_TO_SOT_SMD:SOT-23; Datasheet: http://www.ti.com/lit/ds/symlink/lm3480.pdf; Description_: 100mA, Quasi Low Dropout Voltage Regulator, 5.0V positive fixed output, SOT-23 package
pins: 1 VO, 2 VI, 3 GND

## LM3480-12
designator *  value LM3480-12  Reference: U
100mA, Quasi Low Dropout Voltage Regulator, 12V positive fixed output, SOT-23 package; ki_keywords: ldo linear fixed positive; ki_fp_filters: SOT?23*; Footprint: Package_TO_SOT_SMD:SOT-23; Datasheet: http://www.ti.com/lit/ds/symlink/lm3480.pdf; Description_: 100mA, Quasi Low Dropout Voltage Regulator, 12V positive fixed output, SOT-23 package
pins: 1 VO, 2 VI, 3 GND

## LM3480-15
designator *  value LM3480-15  Reference: U
100mA, Quasi Low Dropout Voltage Regulator, 15V positive fixed output, SOT-23 package; ki_keywords: ldo linear fixed positive; ki_fp_filters: SOT?23*; Footprint: Package_TO_SOT_SMD:SOT-23; Datasheet: http://www.ti.com/lit/ds/symlink/lm3480.pdf; Description_: 100mA, Quasi Low Dropout Voltage Regulator, 15V positive fixed output, SOT-23 package
pins: 1 VO, 2 VI, 3 GND

## LM7805_TO220
designator *  value LM7805_TO220  Reference: U
Positive 1A 35V Linear Regulator, Fixed Output 5V, TO-220; ki_keywords: Voltage Regulator 1A Positive; ki_fp_filters: TO?220*; Footprint: Package_TO_SOT_THT:TO-220-3_Vertical; Datasheet: https://www.onsemi.cn/PowerSolutions/document/MC7800-D.PDF; Description_: Positive 1A 35V Linear Regulator, Fixed Output 5V, TO-220
pins: 1 VI, 2 GND, 3 VO

## LM7806_TO220
designator *  value LM7806_TO220  Reference: U
Positive 1A 35V Linear Regulator, Fixed Output 6V, TO-220; ki_keywords: Voltage Regulator 1A Positive; ki_fp_filters: TO?220*; Footprint: Package_TO_SOT_THT:TO-220-3_Vertical; Datasheet: https://www.onsemi.cn/PowerSolutions/document/MC7800-D.PDF; Description_: Positive 1A 35V Linear Regulator, Fixed Output 6V, TO-220
pins: 1 VI, 2 GND, 3 VO

## LM7808_TO220
designator *  value LM7808_TO220  Reference: U
Positive 1A 35V Linear Regulator, Fixed Output 8V, TO-220; ki_keywords: Voltage Regulator 1A Positive; ki_fp_filters: TO?220*; Footprint: Package_TO_SOT_THT:TO-220-3_Vertical; Datasheet: https://www.onsemi.cn/PowerSolutions/document/MC7800-D.PDF; Description_: Positive 1A 35V Linear Regulator, Fixed Output 8V, TO-220
pins: 1 VI, 2 GND, 3 VO

## LM7809_TO220
designator *  value LM7809_TO220  Reference: U
Positive 1A 35V Linear Regulator, Fixed Output 9V, TO-220; ki_keywords: Voltage Regulator 1A Positive; ki_fp_filters: TO?220*; Footprint: Package_TO_SOT_THT:TO-220-3_Vertical; Datasheet: https://www.onsemi.cn/PowerSolutions/document/MC7800-D.PDF; Description_: Positive 1A 35V Linear Regulator, Fixed Output 9V, TO-220
pins: 1 VI, 2 GND, 3 VO

## LM7810_TO220
designator *  value LM7810_TO220  Reference: U
Positive 1A 35V Linear Regulator, Fixed Output 10V, TO-220; ki_keywords: Voltage Regulator 1A Positive; ki_fp_filters: TO?220*; Footprint: Package_TO_SOT_THT:TO-220-3_Vertical; Datasheet: https://www.onsemi.cn/PowerSolutions/document/MC7800-D.PDF; Description_: Positive 1A 35V Linear Regulator, Fixed Output 10V, TO-220
pins: 1 VI, 2 GND, 3 VO

## LM7812_TO220
designator *  value LM7812_TO220  Reference: U
Positive 1A 35V Linear Regulator, Fixed Output 12V, TO-220; ki_keywords: Voltage Regulator 1A Positive; ki_fp_filters: TO?220*; Footprint: Package_TO_SOT_THT:TO-220-3_Vertical; Datasheet: https://www.onsemi.cn/PowerSolutions/document/MC7800-D.PDF; Description_: Positive 1A 35V Linear Regulator, Fixed Output 12V, TO-220
pins: 1 VI, 2 GND, 3 VO

## LM7815_TO220
designator *  value LM7815_TO220  Reference: U
Positive 1A 35V Linear Regulator, Fixed Output 15V, TO-220; ki_keywords: Voltage Regulator 1A Positive; ki_fp_filters: TO?220*; Footprint: Package_TO_SOT_THT:TO-220-3_Vertical; Datasheet: https://www.onsemi.cn/PowerSolutions/document/MC7800-D.PDF; Description_: Positive 1A 35V Linear Regulator, Fixed Output 15V, TO-220
pins: 1 VI, 2 GND, 3 VO

## LM7818_TO220
designator *  value LM7818_TO220  Reference: U
Positive 1A 35V Linear Regulator, Fixed Output 18V, TO-220; ki_keywords: Voltage Regulator 1A Positive; ki_fp_filters: TO?220*; Footprint: Package_TO_SOT_THT:TO-220-3_Vertical; Datasheet: https://www.onsemi.cn/PowerSolutions/document/MC7800-D.PDF; Description_: Positive 1A 35V Linear Regulator, Fixed Output 18V, TO-220
pins: 1 VI, 2 GND, 3 VO

## LM7824_TO220
designator *  value LM7824_TO220  Reference: U
Positive 1A 35V Linear Regulator, Fixed Output 24V, TO-220; ki_keywords: Voltage Regulator 1A Positive; ki_fp_filters: TO?220*; Footprint: Package_TO_SOT_THT:TO-220-3_Vertical; Datasheet: https://www.onsemi.cn/PowerSolutions/document/MC7800-D.PDF; Description_: Positive 1A 35V Linear Regulator, Fixed Output 24V, TO-220
pins: 1 VI, 2 GND, 3 VO

## LM7905_TO220
designator *  value LM7905_TO220  Reference: U
Negative 1A 35V Linear Regulator, Fixed Output 5V, TO-220; ki_keywords: Voltage Regulator 1A Negative; ki_fp_filters: TO?220*; Footprint: Package_TO_SOT_THT:TO-220-3_Vertical; Datasheet: https://www.onsemi.com/pub/Collateral/MC7900-D.PDF; Description_: Negative 1A 35V Linear Regulator, Fixed Output 5V, TO-220
pins: 1 GND, 2 VI, 3 VO

## LM7906_TO220
designator *  value LM7906_TO220  Reference: U
Negative 1A 35V Linear Regulator, Fixed Output 6V, TO-220; ki_keywords: Voltage Regulator 1A Negative; ki_fp_filters: TO?220*; Footprint: Package_TO_SOT_THT:TO-220-3_Vertical; Datasheet: https://www.onsemi.com/pub/Collateral/MC7900-D.PDF; Description_: Negative 1A 35V Linear Regulator, Fixed Output 6V, TO-220
pins: 1 GND, 2 VI, 3 VO

## LM7908_TO220
designator *  value LM7908_TO220  Reference: U
Negative 1A 35V Linear Regulator, Fixed Output 8V, TO-220; ki_keywords: Voltage Regulator 1A Negative; ki_fp_filters: TO?220*; Footprint: Package_TO_SOT_THT:TO-220-3_Vertical; Datasheet: https://www.onsemi.com/pub/Collateral/MC7900-D.PDF; Description_: Negative 1A 35V Linear Regulator, Fixed Output 8V, TO-220
pins: 1 GND, 2 VI, 3 VO

## LM7909_TO220
designator *  value LM7909_TO220  Reference: U
Negative 1A 35V Linear Regulator, Fixed Output 9V, TO-220; ki_keywords: Voltage Regulator 1A Negative; ki_fp_filters: TO?220*; Footprint: Package_TO_SOT_THT:TO-220-3_Vertical; Datasheet: https://www.onsemi.com/pub/Collateral/MC7900-D.PDF; Description_: Negative 1A 35V Linear Regulator, Fixed Output 9V, TO-220
pins: 1 GND, 2 VI, 3 VO

## LM7910_TO220
designator *  value LM7910_TO220  Reference: U
Negative 1A 35V Linear Regulator, Fixed Output 10V, TO-220; ki_keywords: Voltage Regulator 1A Negative; ki_fp_filters: TO?220*; Footprint: Package_TO_SOT_THT:TO-220-3_Vertical; Datasheet: https://www.onsemi.com/pub/Collateral/MC7900-D.PDF; Description_: Negative 1A 35V Linear Regulator, Fixed Output 10V, TO-220
pins: 1 GND, 2 VI, 3 VO

## LM7912_TO220
designator *  value LM7912_TO220  Reference: U
Negative 1A 35V Linear Regulator, Fixed Output 12V, TO-220; ki_keywords: Voltage Regulator 1A Negative; ki_fp_filters: TO?220*; Footprint: Package_TO_SOT_THT:TO-220-3_Vertical; Datasheet: hhttps://www.onsemi.com/pub/Collateral/MC7900-D.PDF; Description_: Negative 1A 35V Linear Regulator, Fixed Output 12V, TO-220
pins: 1 GND, 2 VI, 3 VO